# Altium schematic symbol library VBlib_Microschemes.SchLib: 37 symbols
Pins are listed as number, name and electrical type; pins without a type are passive.

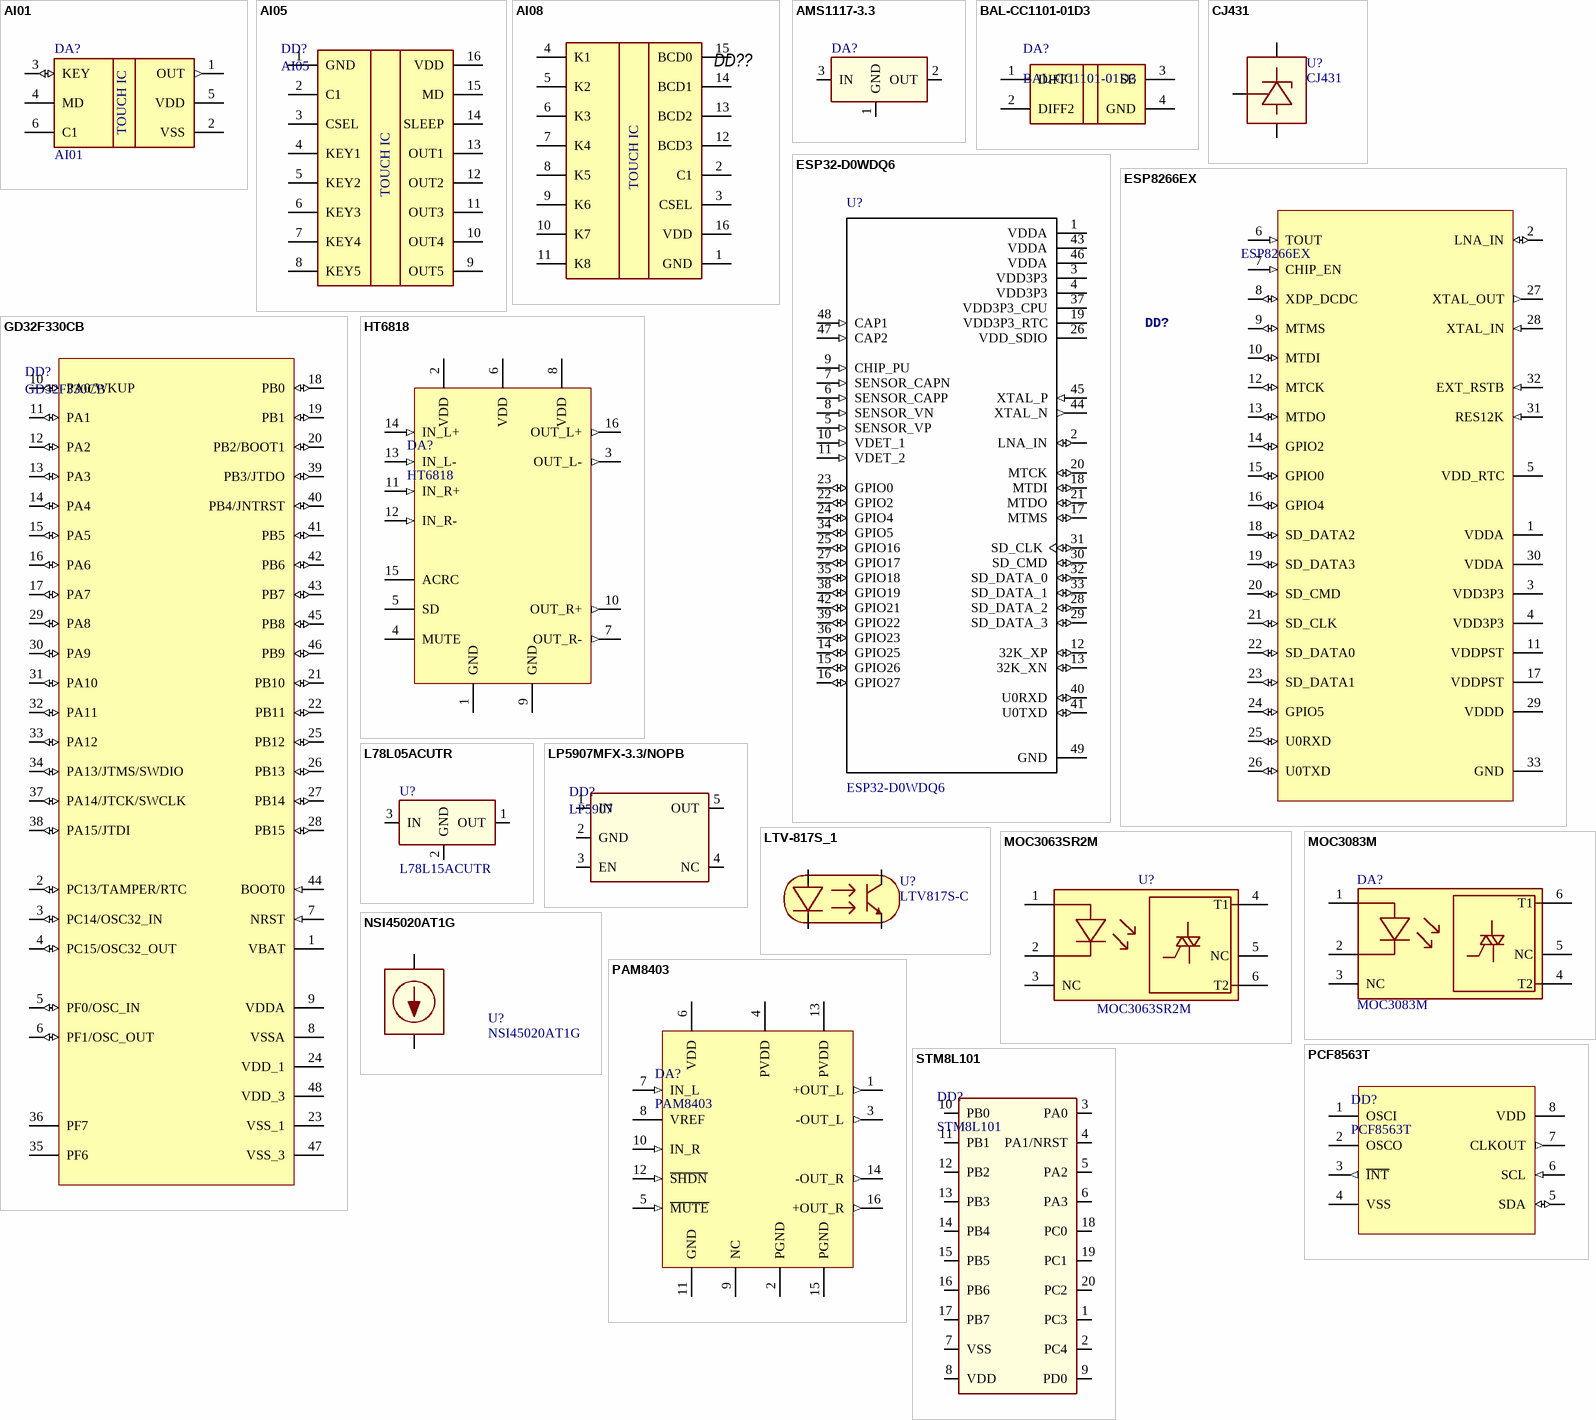
[diagram p0: symbols AI01 to STM8L101]

## AI01
designator DA?
IC, 1ch touch pad detector IC, 2.0-5.5V
footprint SOT-23-6 (SOT23, 6-Leads, Body 2.9x1.3mm, Pitch 0.95mm, Lead Span 2.3mm, IPC Medium Density)
pins: 1 OUT (out) "CMOS output pin", 2 VSS (power) "Ground", 3 KEY (io) "Input sensor port", 4 MD "Output active high or low selection,  1=>Active low; 0=>Active high", 5 VDD (power) "Supply voltage", 6 C1 "Output type option pin,  1=>Toggle mode; 0=>Direct mode"
text: TOUCH IC

## AI05
designator DD?
5 channel self-correcting capacitive touch sensor chip
footprint SO-16 (SOIC, 16-Leads, Body 9.9x3.9mm, Pitch 1.27mm)
pins: 1 GND "Input sensor port", 2 C1 "Input sensor port", 3 CSEL "Input sensor port", 4 KEY1 "Input sensor port", 5 KEY2 "Input sensor port", 6 KEY3 "Input sensor port", 7 KEY4 "Input sensor port", 8 KEY5 "Input sensor port", 9 OUT5 "Input sensor port", 10 OUT4 "Input sensor port", 11 OUT3 "Input sensor port", 12 OUT2 "Input sensor port", 13 OUT1 "Input sensor port", 14 SLEEP "Input sensor port", 15 MD "Input sensor port", 16 VDD "Input sensor port"
text: TOUCH IC

## AI08
designator DD??  (value not drawn)
QUADRUPLE 2-INPUT AND GATES; LCSC_PartNumber: C441720
footprint SO-16 (SOIC, 16-Leads, Body 9.9x3.9mm, Pitch 1.27mm)
pins: 1 GND "Input sensor port", 2 C1 "Input sensor port", 3 CSEL "Input sensor port", 4 K1 "Input sensor port", 5 K2 "Input sensor port", 6 K3 "Input sensor port", 7 K4 "Input sensor port", 8 K5 "Input sensor port", 9 K6 "Input sensor port", 10 K7 "Input sensor port", 11 K8 "Input sensor port", 12 BCD3 "Input sensor port", 13 BCD2 "Input sensor port", 14 BCD1 "Input sensor port", 15 BCD0 "Input sensor port", 16 VDD "Input sensor port"
text: TOUCH IC

## AMS1117-3.3
designator DA?  (value not drawn)
IC, Vreg, LDO, SOT223
footprint SOT-223 (SOT-223, 4-Leads, Body 6.5x3.5mm, Pitch 2.3mm, Lead Span 7mm, IPC Medium Density)
pins: 1 GND, 2 OUT, 3 IN

## BAL-CC1101-01D3
designator DA?
50 ohm nominal input / conjugate match balun
footprint BGA4x2_BALLUN - duplicate
pins: 1 DIFF1 "Output active high or low selection,  1=>Active low; 0=>Active high", 2 DIFF2 "Output type option pin,  1=>Toggle mode; 0=>Direct mode", 3 SE (power) "Supply voltage", 4 GND (power) "Ground"

## CJ431
designator U?
PROGRAMMABLE PRECISION REFERENCE, 2.495В, 0.5%, 100мА, (0 +70С), SOT23-3
footprint SOT-23-3 (SOT-23; 3 Leads; Body 3.0 x 2.6 mm, inc. leads (LxW max))
pins: 1, 2, 3

## ESP32-D0WDQ6
designator U?
/ SoC; 2, 412GГ·2, 484GHz; -98dBm; 2.2Г·3.6VDC; SMD; QFN48; 19.5dBm; 16MB /; MF: Espressif Systems; Package: VFQFN-48 Espressif Systems; SnapEDA_Link: https://www.snapeda.com/parts/ESP32-D0WDQ6/Espressif%20Systems/view-part/?ref=snap; MP: ESP32-D0WDQ6; Digi-Key_Part_Number: 1904-1004-1-ND; Digi-Key_Purchase_URL: https://www.digikey.ru/product-detail/en/espressif-systems/ESP32-D0WDQ6/1904-1004-1-ND/8028411?utm_source=snapeda&utm_medium=aggregator&utm_campaign=symbol; Value: *
footprint *QFN35P500X500X90-49N
footprint *QFN35P500X500X90-49N
pins: 1 VDDA (power), 2 LNA_IN (io), 3 VDD3P3 (power), 4 VDD3P3 (power), 5 SENSOR_VP (in), 6 SENSOR_CAPP (in), 7 SENSOR_CAPN (in), 8 SENSOR_VN (in), 9 CHIP_PU (in), 10 VDET_1 (in), 11 VDET_2 (in), 12 32K_XP (io), 13 32K_XN (io), 14 GPIO25 (io), 15 GPIO26 (io), 16 GPIO27 (io), 17 MTMS (io), 18 MTDI (io), 19 VDD3P3_RTC (power), 20 MTCK (io), 21 MTDO (io), 22 GPIO2 (io), 23 GPIO0 (io), 24 GPIO4 (io), 25 GPIO16 (io), 26 VDD_SDIO (power), 27 GPIO17 (io), 28 SD_DATA_2 (io), 29 SD_DATA_3 (io), 30 SD_CMD (io), 31 SD_CLK (io), 32 SD_DATA_0 (io), 33 SD_DATA_1 (io), 34 GPIO5 (io), 35 GPIO18 (io), 36 GPIO23 (io), 37 VDD3P3_CPU (power), 38 GPIO19 (io), 39 GPIO22 (io), 40 U0RXD (io), 41 U0TXD (io), 42 GPIO21 (io), 43 VDDA (power), 44 XTAL_N (out), 45 XTAL_P (in), 46 VDDA (power), 47 CAP2 (in), 48 CAP1 (in), 49 GND (power)

## ESP8266EX
designator DD?
Wi-Fi SoC (Espressif)
footprint QFN32 (QFN, 32-Leads, Body 5.00x5.00mm, Pitch 0.50mm, Thermal Pad 3.60x3.60mm, IPC Medium Density (Vanchik for ESP8266EX))
pins: 1 VDDA (power), 2 LNA_IN (io), 3 VDD3P3 (power), 4 VDD3P3 (power), 5 VDD_RTC (power), 6 TOUT (in), 7 CHIP_EN (in), 8 XDP_DCDC (io), 9 MTMS (io), 10 MTDI (io), 11 VDDPST (power), 12 MTCK (io), 13 MTDO (io), 14 GPIO2 (io), 15 GPIO0 (io), 16 GPIO4 (io), 17 VDDPST (power), 18 SD_DATA2 (io), 19 SD_DATA3 (io), 20 SD_CMD (io), 21 SD_CLK (io), 22 SD_DATA0 (io), 23 SD_DATA1 (io), 24 GPIO5 (io), 25 U0RXD (io), 26 U0TXD (io), 27 XTAL_OUT (out), 28 XTAL_IN (in), 29 VDDD (power), 30 VDDA (power), 31 RES12K (in), 32 EXT_RSTB (in), 33 GND (power)

## GD32F330CB
designator DD?
32-Bit FLASH ARM® Cortex®-M4 84MHz 2.6V ~ 3.6V LQFP-48_7x7x05P GigaDevice RoHS
footprint LQFP48
pins: 1 VBAT (power), 2 PC13/TAMPER/RTC (io), 3 PC14/OSC32_IN (io), 4 PC15/OSC32_OUT (io), 5 PF0/OSC_IN (io), 6 PF1/OSC_OUT (io), 7 NRST (in), 8 VSSA (power), 9 VDDA (power), 10 PA0/WKUP (io), 11 PA1 (io), 12 PA2 (io), 13 PA3 (io), 14 PA4 (io), 15 PA5 (io), 16 PA6 (io), 17 PA7 (io), 18 PB0 (io), 19 PB1 (io), 20 PB2/BOOT1 (io), 21 PB10 (io), 22 PB11 (io), 23 VSS_1 (power), 24 VDD_1 (power), 25 PB12 (io), 26 PB13 (io), 27 PB14 (io), 28 PB15 (io), 29 PA8 (io), 30 PA9 (io), 31 PA10 (io), 32 PA11 (io), 33 PA12 (io), 34 PA13/JTMS/SWDIO (io), 35 PF6 (power), 36 PF7 (power), 37 PA14/JTCK/SWCLK (io), 38 PA15/JTDI (io), 39 PB3/JTDO (io), 40 PB4/JNTRST (io), 41 PB5 (io), 42 PB6 (io), 43 PB7 (io), 44 BOOT0 (in), 45 PB8 (io), 46 PB9 (io), 47 VSS_3 (power), 48 VDD_3 (power)

## HT6818
designator DA?
Filterless 3W Class-D Stereo Audio Amplifier, SOP-16
footprint SO-16 (SOIC, 16-Leads, Body 9.9x3.9mm, Pitch 1.27mm)
pins: 1 GND (power), 2 VDD (power), 3 OUT_L- (out), 4 MUTE (power), 5 SD, 6 VDD (power), 7 OUT_R- (out), 8 VDD (power), 9 GND (power), 10 OUT_R+ (out), 11 IN_R+ (in), 12 IN_R- (in), 13 IN_L- (in), 14 IN_L+ (in), 15 ACRC, 16 OUT_L+ (out)

## L78L05ACUTR
designator U?, comment L78L15ACUTR
Positive voltage regulator, I=100mA, Vreg=15V, SOT-89
footprint SOT89M (SOT89, 3-Leads, Body 4.5x2.4 mm, Pitch 1.5mm, Lead Span 4.1mm, IPC Low Density)
pins: 1 OUT, 2 GND, 3 IN

## LP5907MFX-3.3/NOPB
designator DD?, comment LP5907
250-mA Ultra-Low-Noise, Low-IQ LDO
footprint SOT-23-5 (SOT23, 5-Leads, Body 2.9x1.3mm, Pitch 0.95mm, Lead Span 2.3mm, IPC Medium Density)
pins: 1 IN, 2 GND, 3 EN, 4 NC, 5 OUT

## LTV-817S_1
designator U?, comment LTV-817S  (value not drawn)
OPTOCOUPLER, Phototransistor Output, One Channel,  SOIC-4 Package
footprint SO-4 (Opto) (SOIC, 4-Leads, Body 6.5x5.0mm, Pitch 2.54mm)
pins: 1 A, 2 C, 3 E, 4 C
text: LTV817S-C

## MOC3063SR2M
designator U?
6-Pin SOIC Zero-Cross Optoisolators Triac Driver Output
footprint SO-6 (Opto) (SOIC, 4-Leads, Body 6.5x5.0mm, Pitch 2.54mm)
pins: 1 Anode, 2 Cathode, 3 NC, 4 T1, 5 NC, 6 T2

## MOC3083M
designator DA?
6-Pin DIP Zero-Cross Optoisolators Triac Driver Output
footprint DIP6
pins: 1 Anode, 2 Cathode, 3 NC, 4 T2, 5 NC, 6 T1

## NSI45020AT1G
designator U?
Constant Current Regulator & LED Driver, 45 V, 20 mA  10%, 460 mW, SOD123
footprint SOD-123_NOT_DIODE
pins: 1, 2

## PAM8403
designator DA?
Filterless 3W Class-D Stereo Audio Amplifier, SOP-16
footprint SO-16 (SOIC, 16-Leads, Body 9.9x3.9mm, Pitch 1.27mm)
pins: 1 +OUT_L (out), 2 PGND (power), 3 -OUT_L (out), 4 PVDD (power), 5 ~{MUTE} (in), 6 VDD (power), 7 IN_L (in), 8 VREF, 9 NC (power), 10 IN_R (in), 11 GND (power), 12 ~{SHDN} (in), 13 PVDD (power), 14 -OUT_R (out), 15 PGND (power), 16 +OUT_R (out)

## PCF8563T
designator DD?
Real-time clock/calendar, SOIC-8
footprint SOIC-8 (208mil)
footprint SOIC-8 (uni)
footprint SOIC-8 (SOIC, 8-Leads, Body 4.9x3.9mm, Pitch 1.27mm)
pins: 1 OSCI, 2 OSCO, 3 ~{INT} (out), 4 VSS (power), 5 SDA (io), 6 SCL (in), 7 CLKOUT (out), 8 VDD (power)

## STM8L101
designator DD?
8-bit ultra-low power microcontroller with up to 8 Kbytes Flash, / multifunction timers, comparators, USART, SPI, I2C
footprint TSSOP20
pins: 1 PC3, 2 PC4, 3 PA0, 4 PA1/NRST, 5 PA2, 6 PA3, 7 VSS, 8 VDD, 9 PD0, 10 PB0, 11 PB1, 12 PB2, 13 PB3, 14 PB4, 15 PB5, 16 PB6, 17 PB7, 18 PC0, 19 PC1, 20 PC2

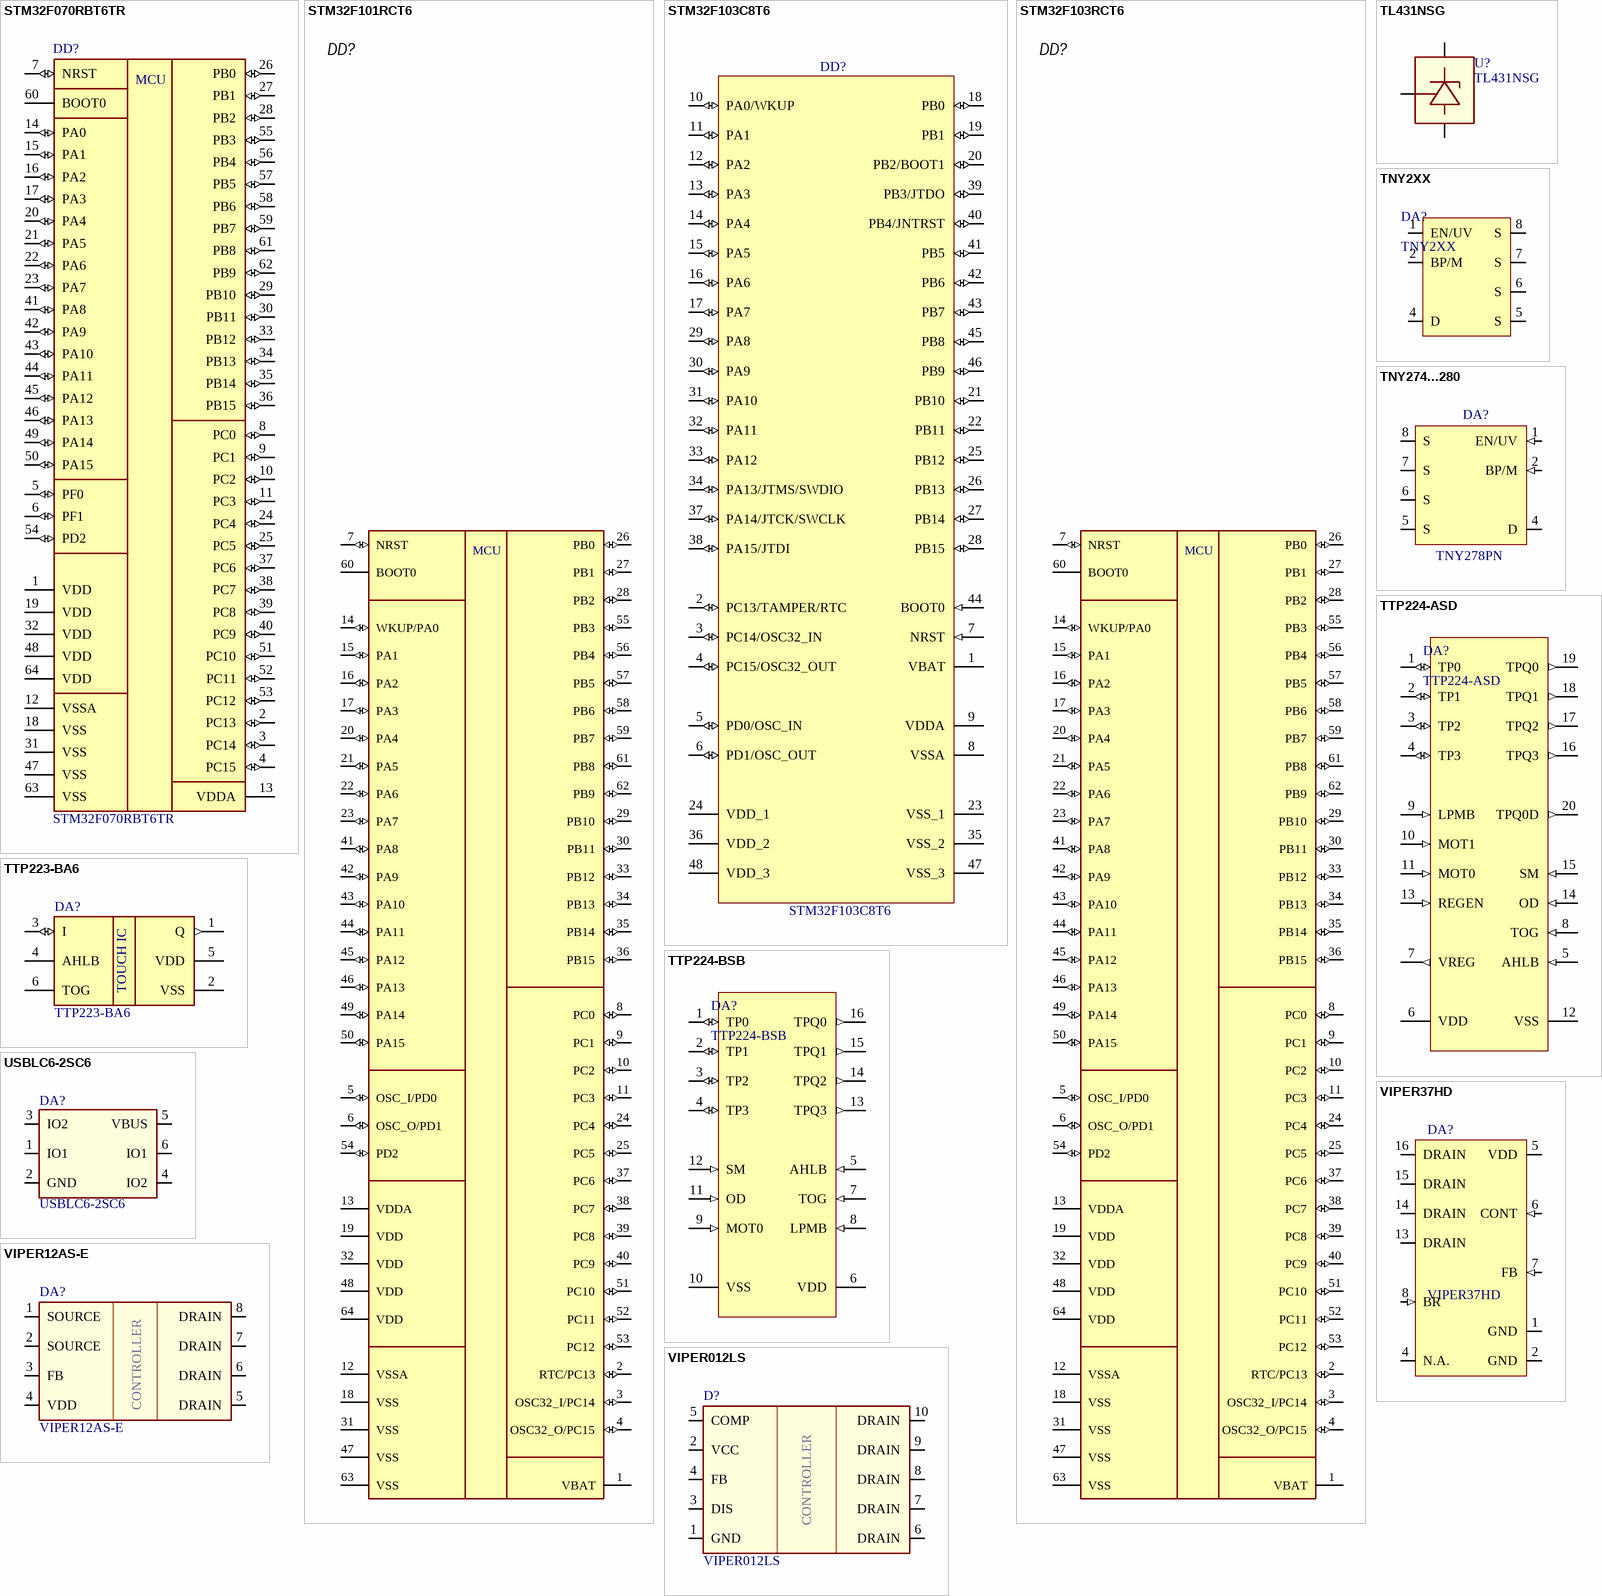
[diagram p1: symbols STM32F070RBT6TR to VIPER37HD]

## STM32F070RBT6TR
designator DD?
IC, MCU, LQFP-64, 32-bit ARM Cortex-M0, 48Mhz, flash 128kb (ST)
footprint LQFP64
pins: 1 VDD (power) "Digital power supply", 2 PC13 (io) "WKUP2,  RTC_TAMP1,  RTC_TS,  RTC_OUT", 3 PC14 (io) "OSC32_IN", 4 PC15 (io) "OSC32_OU", 5 PF0 (io) "I2C1_SDA, OSC_IN", 6 PF1 (io) "I2C1_SCL, OSC_OUT", 7 NRST (io) "Device reset input / internal reset output (active low)", 8 PC0 (io), 9 PC1 (io), 10 PC2 (io), 11 PC3 (io), 12 VSSA (power) "Analog ground", 13 VDDA (power) "Analog power supply", 14 PA0 (io) "USART2_CTS,  USART4_TX  RTC_ TAMP2,  WKUP1, ADC_IN0,", 15 PA1 (io) "USART2_RTS,  TIM15_CH1N,  USART4_RX, EVENTOUT  ADC_IN1", 16 PA2 (io) "USART2_TX, TIM15_CH1 ADC_IN2, WKUP4", 17 PA3 (io) "USART2_RX, TIM15_CH2 ADC_IN3", 18 VSS (power) "Graound", 19 VDD (power) "Digital power supply", 20 PA4 (io) "SPI1_NSS, TIM14_CH1,  USART2_CK,  USB_NOE(3)  ADC_IN4", 21 PA5 (io) "SPI1_SCK ADC_IN5", 22 PA6 (io) "SPI1_MISO, TIM3_CH1,  TIM1_BKIN,  TIM16_CH1, EVENTOUT,  USART3_CTS  ADC_IN6", 23 PA7 (io) "SPI1_MOSI, TIM3_CH2,  TIM14_CH1,  TIM1_CH1N, TIM17_CH1,  EVENTOUT  ADC_IN7", 24 PC4 (io), 25 PC5 (io), 26 PB0 (io) "TIM3_CH3, TIM1_CH2N,  EVENTOUT,  USART3_CK  ADC_IN8", 27 PB1 (io) "TIM3_CH4,  USART3_RTS,  TIM14_CH1, TIM1_CH3N  ADC_IN9", 28 PB2 (io), 29 PB10 (io) "SPI2_SCK, USART3_TX", 30 PB11 (io) "USART3_RX,  EVENTOUT, I2C2_SDA", 31 VSS (power) "Graound", 32 VDD (power) "Digital power supply", 33 PB12 (io) "TIM1_BKIN, TIM15_BKIN,  SPI2_NSS, EVENTOUT,  USART3_CK", 34 PB13 (io) "SPI2_SCK, I2C2_SCL,  TIM1_CH1N,  USART3_CTS", 35 PB14 (io) "SPI2_MISO, I2C2_SDA,  TIM1_CH2N, TIM15_CH1,  USART3_RTS", 36 PB15 (io) "SPI2_MOSI, TIM1_CH3N,  TIM15_CH1N,  TIM15_CH2  WKUP7,  RTC_REFIN", 37 PC6 (io), 38 PC7 (io), 39 PC8 (io), 40 PC9 (io), 41 PA8 (io) "USART1_CK, TIM1_CH1,  EVENTOUT, MCO", 42 PA9 (io) "USART1_TX, TIM1_CH2,  TIM15_BKIN,  I2C1_SCL", 43 PA10 (io) "USART1_RX, TIM1_CH3,  TIM17_BKIN,  I2C1_SDA", 44 PA11 (io) "USART1_CTS,  TIM1_CH4, EVENTOUT USB_DM", 45 PA12 (io) "USART1_RTS,  TIM1_ETR, EVENTOUT USB_DP", 46 PA13 (io) "IR_OUT, SWDIO,  USB_NOE", 47 VSS (power) "Ground", 48 VDD (power) "Digital power supply", 49 PA14 (io) "USART2_TX, SWCLK", 50 PA15 (io) "SPI1_NSS, USART2_RX,  USART4_RTS,  EVENTOUT", 51 PC10 (io), 52 PC11 (io), 53 PC12 (io), 54 PD2 (io), 55 PB3 (io) "SPI1_SCK, EVENTOUT", 56 PB4 (io) "SPI1_MISO, TIM17_BKIN,  TIM3_CH1, EVENTOUT", 57 PB5 (io) "SPI1_MOSI, I2C1_SMBA,  TIM16_BKIN,  TIM3_CH2  WKUP6", 58 PB6 (io) "I2C1_SCL, USART1_TX,  TIM16_CH1N", 59 PB7 (io) "I2C1_SDA, USART1_RX,  USART4_CTS,  TIM17_C", 60 BOOT0 "Boot memory selection", 61 PB8 (io) "I2C1_SCL, TIM16_CH1", 62 PB9 (io) "SPI2_NSS, I2C1_SDA,  IR_OUT,  TIM17_CH1, EVENTOUT", 63 VSS (power) "Ground", 64 VDD (power) "Digital power supply"
text: MCU

## STM32F101RCT6
designator DD?  (value not drawn)
ARM Cortex-M3 MCU with 256 Kbytes Flash, 32 MHz CPU; Manufacturer: ST; Group: Микросхемы; Value: Микроконтроллер; Name: STM32F101RCT6; Supplier: ООО"Торгэлектроника"
footprint LQFP64
pins: 1 VBAT (power) "Analog power supply", 2 RTC/PC13 (io) "WKUP2,  RTC_TAMP1,  RTC_TS,  RTC_OUT", 3 OSC32_I/PC14 (io) "OSC32_IN", 4 OSC32_O/PC15 (io) "OSC32_OU", 5 OSC_I/PD0 (io) "I2C1_SDA, OSC_IN", 6 OSC_O/PD1 (io) "I2C1_SCL, OSC_OUT", 7 NRST (io) "Device reset input / internal reset output (active low)", 8 PC0 (io), 9 PC1 (io), 10 PC2 (io), 11 PC3 (io), 12 VSSA (power) "Analog ground", 13 VDDA (power) "Digital power supply", 14 WKUP/PA0 (io) "USART2_CTS,  USART4_TX  RTC_ TAMP2,  WKUP1, ADC_IN0,", 15 PA1 (io) "USART2_RTS,  TIM15_CH1N,  USART4_RX, EVENTOUT  ADC_IN1", 16 PA2 (io) "USART2_TX, TIM15_CH1 ADC_IN2, WKUP4", 17 PA3 (io) "USART2_RX, TIM15_CH2 ADC_IN3", 18 VSS (power) "Graound", 19 VDD (power) "Digital power supply", 20 PA4 (io) "SPI1_NSS, TIM14_CH1,  USART2_CK,  USB_NOE(3)  ADC_IN4", 21 PA5 (io) "SPI1_SCK ADC_IN5", 22 PA6 (io) "SPI1_MISO, TIM3_CH1,  TIM1_BKIN,  TIM16_CH1, EVENTOUT,  USART3_CTS  ADC_IN6", 23 PA7 (io) "SPI1_MOSI, TIM3_CH2,  TIM14_CH1,  TIM1_CH1N, TIM17_CH1,  EVENTOUT  ADC_IN7", 24 PC4 (io), 25 PC5 (io), 26 PB0 (io) "TIM3_CH3, TIM1_CH2N,  EVENTOUT,  USART3_CK  ADC_IN8", 27 PB1 (io) "TIM3_CH4,  USART3_RTS,  TIM14_CH1, TIM1_CH3N  ADC_IN9", 28 PB2 (io), 29 PB10 (io) "SPI2_SCK, USART3_TX", 30 PB11 (io) "USART3_RX,  EVENTOUT, I2C2_SDA", 31 VSS (power) "Graound", 32 VDD (power) "Digital power supply", 33 PB12 (io) "TIM1_BKIN, TIM15_BKIN,  SPI2_NSS, EVENTOUT,  USART3_CK", 34 PB13 (io) "SPI2_SCK, I2C2_SCL,  TIM1_CH1N,  USART3_CTS", 35 PB14 (io) "SPI2_MISO, I2C2_SDA,  TIM1_CH2N, TIM15_CH1,  USART3_RTS", 36 PB15 (io) "SPI2_MOSI, TIM1_CH3N,  TIM15_CH1N,  TIM15_CH2  WKUP7,  RTC_REFIN", 37 PC6 (io), 38 PC7 (io), 39 PC8 (io), 40 PC9 (io), 41 PA8 (io) "USART1_CK, TIM1_CH1,  EVENTOUT, MCO", 42 PA9 (io) "USART1_TX, TIM1_CH2,  TIM15_BKIN,  I2C1_SCL", 43 PA10 (io) "USART1_RX, TIM1_CH3,  TIM17_BKIN,  I2C1_SDA", 44 PA11 (io) "USART1_CTS,  TIM1_CH4, EVENTOUT USB_DM", 45 PA12 (io) "USART1_RTS,  TIM1_ETR, EVENTOUT USB_DP", 46 PA13 (io) "IR_OUT, SWDIO,  USB_NOE", 47 VSS (power) "Ground", 48 VDD (power) "Digital power supply", 49 PA14 (io) "USART2_TX, SWCLK", 50 PA15 (io) "SPI1_NSS, USART2_RX,  USART4_RTS,  EVENTOUT", 51 PC10 (io), 52 PC11 (io), 53 PC12 (io), 54 PD2 (io), 55 PB3 (io) "SPI1_SCK, EVENTOUT", 56 PB4 (io) "SPI1_MISO, TIM17_BKIN,  TIM3_CH1, EVENTOUT", 57 PB5 (io) "SPI1_MOSI, I2C1_SMBA,  TIM16_BKIN,  TIM3_CH2  WKUP6", 58 PB6 (io) "I2C1_SCL, USART1_TX,  TIM16_CH1N", 59 PB7 (io) "I2C1_SDA, USART1_RX,  USART4_CTS,  TIM17_C", 60 BOOT0 "Boot memory selection", 61 PB8 (io) "I2C1_SCL, TIM16_CH1", 62 PB9 (io) "SPI2_NSS, I2C1_SDA,  IR_OUT,  TIM17_CH1, EVENTOUT", 63 VSS (power) "Ground", 64 VDD (power) "Digital power supply"
text: MCU

## STM32F103C8T6
designator DD?
IC, MCU, LQFP-48, 32-bit ARM Cortex-M3, 72Mhz, flash 64kb (ST)
footprint LQFP48
pins: 1 VBAT (power), 2 PC13/TAMPER/RTC (io), 3 PC14/OSC32_IN (io), 4 PC15/OSC32_OUT (io), 5 PD0/OSC_IN (io), 6 PD1/OSC_OUT (io), 7 NRST (in), 8 VSSA (power), 9 VDDA (power), 10 PA0/WKUP (io), 11 PA1 (io), 12 PA2 (io), 13 PA3 (io), 14 PA4 (io), 15 PA5 (io), 16 PA6 (io), 17 PA7 (io), 18 PB0 (io), 19 PB1 (io), 20 PB2/BOOT1 (io), 21 PB10 (io), 22 PB11 (io), 23 VSS_1 (power), 24 VDD_1 (power), 25 PB12 (io), 26 PB13 (io), 27 PB14 (io), 28 PB15 (io), 29 PA8 (io), 30 PA9 (io), 31 PA10 (io), 32 PA11 (io), 33 PA12 (io), 34 PA13/JTMS/SWDIO (io), 35 VSS_2 (power), 36 VDD_2 (power), 37 PA14/JTCK/SWCLK (io), 38 PA15/JTDI (io), 39 PB3/JTDO (io), 40 PB4/JNTRST (io), 41 PB5 (io), 42 PB6 (io), 43 PB7 (io), 44 BOOT0 (in), 45 PB8 (io), 46 PB9 (io), 47 VSS_3 (power), 48 VDD_3 (power)

## STM32F103RCT6
designator DD?  (value not drawn)
ARM Cortex-M3 MCU with 256 Kbytes Flash, 32 MHz CPU; Manufacturer: ST; Name: STM32F101RCT6; Group: Микросхемы; Value: Микроконтроллер; Supplier: ООО"Торгэлектроника"
footprint LQFP64
pins: 1 VBAT (power) "Analog power supply", 2 RTC/PC13 (io) "WKUP2,  RTC_TAMP1,  RTC_TS,  RTC_OUT", 3 OSC32_I/PC14 (io) "OSC32_IN", 4 OSC32_O/PC15 (io) "OSC32_OU", 5 OSC_I/PD0 (io) "I2C1_SDA, OSC_IN", 6 OSC_O/PD1 (io) "I2C1_SCL, OSC_OUT", 7 NRST (io) "Device reset input / internal reset output (active low)", 8 PC0 (io), 9 PC1 (io), 10 PC2 (io), 11 PC3 (io), 12 VSSA (power) "Analog ground", 13 VDDA (power) "Digital power supply", 14 WKUP/PA0 (io) "USART2_CTS,  USART4_TX  RTC_ TAMP2,  WKUP1, ADC_IN0,", 15 PA1 (io) "USART2_RTS,  TIM15_CH1N,  USART4_RX, EVENTOUT  ADC_IN1", 16 PA2 (io) "USART2_TX, TIM15_CH1 ADC_IN2, WKUP4", 17 PA3 (io) "USART2_RX, TIM15_CH2 ADC_IN3", 18 VSS (power) "Graound", 19 VDD (power) "Digital power supply", 20 PA4 (io) "SPI1_NSS, TIM14_CH1,  USART2_CK,  USB_NOE(3)  ADC_IN4", 21 PA5 (io) "SPI1_SCK ADC_IN5", 22 PA6 (io) "SPI1_MISO, TIM3_CH1,  TIM1_BKIN,  TIM16_CH1, EVENTOUT,  USART3_CTS  ADC_IN6", 23 PA7 (io) "SPI1_MOSI, TIM3_CH2,  TIM14_CH1,  TIM1_CH1N, TIM17_CH1,  EVENTOUT  ADC_IN7", 24 PC4 (io), 25 PC5 (io), 26 PB0 (io) "TIM3_CH3, TIM1_CH2N,  EVENTOUT,  USART3_CK  ADC_IN8", 27 PB1 (io) "TIM3_CH4,  USART3_RTS,  TIM14_CH1, TIM1_CH3N  ADC_IN9", 28 PB2 (io), 29 PB10 (io) "SPI2_SCK, USART3_TX", 30 PB11 (io) "USART3_RX,  EVENTOUT, I2C2_SDA", 31 VSS (power) "Graound", 32 VDD (power) "Digital power supply", 33 PB12 (io) "TIM1_BKIN, TIM15_BKIN,  SPI2_NSS, EVENTOUT,  USART3_CK", 34 PB13 (io) "SPI2_SCK, I2C2_SCL,  TIM1_CH1N,  USART3_CTS", 35 PB14 (io) "SPI2_MISO, I2C2_SDA,  TIM1_CH2N, TIM15_CH1,  USART3_RTS", 36 PB15 (io) "SPI2_MOSI, TIM1_CH3N,  TIM15_CH1N,  TIM15_CH2  WKUP7,  RTC_REFIN", 37 PC6 (io), 38 PC7 (io), 39 PC8 (io), 40 PC9 (io), 41 PA8 (io) "USART1_CK, TIM1_CH1,  EVENTOUT, MCO", 42 PA9 (io) "USART1_TX, TIM1_CH2,  TIM15_BKIN,  I2C1_SCL", 43 PA10 (io) "USART1_RX, TIM1_CH3,  TIM17_BKIN,  I2C1_SDA", 44 PA11 (io) "USART1_CTS,  TIM1_CH4, EVENTOUT USB_DM", 45 PA12 (io) "USART1_RTS,  TIM1_ETR, EVENTOUT USB_DP", 46 PA13 (io) "IR_OUT, SWDIO,  USB_NOE", 47 VSS (power) "Ground", 48 VDD (power) "Digital power supply", 49 PA14 (io) "USART2_TX, SWCLK", 50 PA15 (io) "SPI1_NSS, USART2_RX,  USART4_RTS,  EVENTOUT", 51 PC10 (io), 52 PC11 (io), 53 PC12 (io), 54 PD2 (io), 55 PB3 (io) "SPI1_SCK, EVENTOUT", 56 PB4 (io) "SPI1_MISO, TIM17_BKIN,  TIM3_CH1, EVENTOUT", 57 PB5 (io) "SPI1_MOSI, I2C1_SMBA,  TIM16_BKIN,  TIM3_CH2  WKUP6", 58 PB6 (io) "I2C1_SCL, USART1_TX,  TIM16_CH1N", 59 PB7 (io) "I2C1_SDA, USART1_RX,  USART4_CTS,  TIM17_C", 60 BOOT0 "Boot memory selection", 61 PB8 (io) "I2C1_SCL, TIM16_CH1", 62 PB9 (io) "SPI2_NSS, I2C1_SDA,  IR_OUT,  TIM17_CH1, EVENTOUT", 63 VSS (power) "Ground", 64 VDD (power) "Digital power supply"
text: MCU

## TL431NSG
designator U?
PROGRAMMABLE PRECISION REFERENCE, 2.495В, 0.5%, 100мА, (0 +70С), SOT23-3
footprint SOT-23-3 (SOT-23; 3 Leads; Body 3.0 x 2.6 mm, inc. leads (LxW max))
pins: 1, 2, 3

## TNY2XX
designator DA?
TNY274-280 TinySwitch-III Family  Energy Efficient, Off-Line Switcher; Value: TNY274P; Value: TNY274G; Value: TNY275P; Value: TNY275G; Value: TNY276P; Value: TNY276G; Value: TNY277P; Value: TNY277G; Value: TNY278P; Value: TNY278G; Value: TNY279P; Value: TNY279G; Value: TNY280P; Value: TNY280G
footprint DIP8C
footprint SOIC-8C (SOIC, 7-Leads, Body 4.9x3.9mm, Pitch 1.27mm)
footprint SOIC-8C_RECT (SOIC, 7-Leads, Body 4.9x3.9mm, Pitch 1.27mm)
pins: 1 EN/UV, 2 BP/M (power), 4 D (oc), 5 S (power), 6 S (power), 7 S (power), 8 S (power)

## TNY274...280
designator DA?, comment TNY278PN
IC, DC-DC controller, DIP-8C (ST)
footprint DIP8C
pins: 1 EN/UV (in), 2 BP/M (in), 4 D (power), 5 S (oc), 6 S (oc), 7 S (oc), 8 S (oc)

## TTP223-BA6
designator DA?
IC, 1ch touch pad detector IC, 2.0-5.5V
footprint SOT-23-6 (SOT23, 6-Leads, Body 2.9x1.3mm, Pitch 0.95mm, Lead Span 2.3mm, IPC Medium Density)
pins: 1 Q (out) "CMOS output pin", 2 VSS (power) "Ground", 3 I (io) "Input sensor port", 4 AHLB "Output active high or low selection,  1=>Active low; 0=>Active high", 5 VDD (power) "Supply voltage", 6 TOG "Output type option pin,  1=>Toggle mode; 0=>Direct mode"
text: TOUCH IC

## TTP224-ASD
designator DA?
4 KEY TOUCH PAD DETECTOR IC
footprint SOP64P600X175-20N (SOP, 20-Leads, Body 8,65x3,90mm, Pitch 0,64mm, IPC Medium Density)
pins: 1 TP0 (io), 2 TP1 (io), 3 TP2 (io), 4 TP3 (io), 5 AHLB (in), 6 VDD (power), 7 VREG (out), 8 TOG (in), 9 LPMB (in), 10 MOT1 (in), 11 MOT0 (in), 12 VSS (power), 13 REGEN (in), 14 OD (in), 15 SM (in), 16 TPQ3 (out), 17 TPQ2 (out), 18 TPQ1 (out), 19 TPQ0 (out), 20 TPQ0D (out)

## TTP224-BSB
designator DA?
4 KEY TOUCH PAD DETECTOR IC
footprint SSOP16 (SOP, 16-Leads, Body 4,90x3,90mm, Pitch 0,64mm, IPC Medium Density)
footprint SSOP16_RECT (SOP, 16-Leads, Body 4,90x3,90mm, Pitch 0,64mm, IPC Medium Density)
pins: 1 TP0 (io), 2 TP1 (io), 3 TP2 (io), 4 TP3 (io), 5 AHLB (in), 6 VDD (power), 7 TOG (in), 8 LPMB (in), 9 MOT0 (in), 10 VSS (power), 11 OD (in), 12 SM (in), 13 TPQ3 (out), 14 TPQ2 (out), 15 TPQ1 (out), 16 TPQ0 (out)

## USBLC6-2SC6
designator DA?
Very low capacitance ESD protection (ST)
footprint SOT-23-6 (SOT23, 6-Leads, Body 2.9x1.3mm, Pitch 0.95mm, Lead Span 2.3mm, IPC Medium Density)
pins: 1 IO1, 2 GND, 3 IO2, 4 IO2, 5 VBUS, 6 IO1

## VIPER12AS-E
designator DA?
IC, DC-DC controller (ST)
footprint SOIC-8 (SOIC, 8-Leads, Body 4.9x3.9mm, Pitch 1.27mm)
footprint SOIC-8_RECT (SOIC, 8-Leads, Body 4.9x3.9mm, Pitch 1.27mm)
pins: 1 SOURCE, 2 SOURCE, 3 FB, 4 VDD, 5 DRAIN, 6 DRAIN, 7 DRAIN, 8 DRAIN
text: CONTROLLER

## VIPER012LS
designator D?
IC, DC-DC controller (ST)
footprint SSOP10 (SSOP10 package for HVLED001)
pins: 1 GND, 2 VCC, 3 DIS, 4 FB, 5 COMP, 6 DRAIN, 7 DRAIN, 8 DRAIN, 9 DRAIN, 10 DRAIN
text: CONTROLLER

## VIPER37HD
designator DA?
IC, DC-DC controller (ST)
footprint SO-16 (SOIC, 16-Leads, Body 9.9x3.9mm, Pitch 1.27mm)
pins: 1 GND (power), 2 GND (power), 4 N.A., 5 VDD (power), 6 CONT (in), 7 FB (in), 8 BR (in), 13 DRAIN (oc), 14 DRAIN (oc), 15 DRAIN (oc), 16 DRAIN (oc)

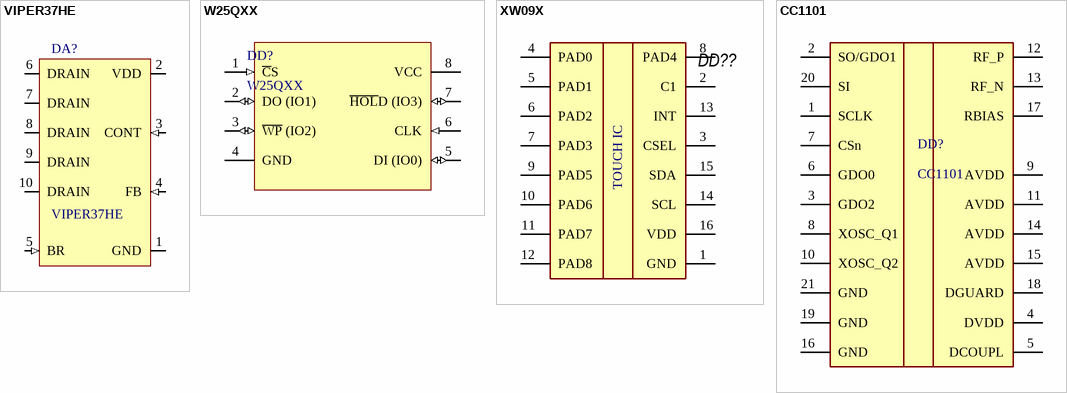
[diagram p2: symbols VIPER37HE to СС1101]

## VIPER37HE
designator DA?
IC, DC-DC controller (ST)
footprint SDIP10
pins: 1 GND (power), 2 VDD (power), 3 CONT (in), 4 FB (in), 5 BR (in), 6 DRAIN (oc), 7 DRAIN (oc), 8 DRAIN (oc), 9 DRAIN (oc), 10 DRAIN (oc)

## W25QXX
designator DD?
Flash memory, SPI, SOIC-8
footprint SOIC-8 (208mil)
pins: 1 ~{C}S (in), 2 DO (IO1) (io), 3 ~{WP} (IO2) (io), 4 GND (power), 5 DI (IO0) (io), 6 CLK (in), 7 ~{HOL}D (IO3) (io), 8 VCC (power)

## XW09X
designator DD??, comment XW09A  (value not drawn)
QUADRUPLE 2-INPUT AND GATES; Manufacturer: Nexperia; Group: Микросхемы; Value: Touch 8 pad; Name: XW09A; Supplier: ООО "Торгэлектроника"; LCSC_PartNumber: C441720
footprint SO-16 (SOIC, 16-Leads, Body 9.9x3.9mm, Pitch 1.27mm)
pins: 1 GND "Input sensor port", 2 C1 "Input sensor port", 3 CSEL "Input sensor port", 4 PAD0 "Input sensor port", 5 PAD1 "Input sensor port", 6 PAD2 "Input sensor port", 7 PAD3 "Input sensor port", 8 PAD4 "Input sensor port", 9 PAD5 "Input sensor port", 10 PAD6 "Input sensor port", 11 PAD7 "Input sensor port", 12 PAD8 "Input sensor port", 13 INT "Input sensor port", 14 SCL "Input sensor port", 15 SDA "Input sensor port", 16 VDD "Input sensor port"
text: TOUCH IC

## СС1101
designator DD?
Low-Power Sub-1 GHz RF Transceiver
footprint S-PVQFN-N20
pins: 1 SCLK "Input sensor port", 2 SO/GDO1 "Input sensor port", 3 GDO2 "Input sensor port", 4 DVDD "Input sensor port", 5 DCOUPL "Input sensor port", 6 GDO0 "Input sensor port", 7 CSn "Input sensor port", 8 XOSC_Q1 "Input sensor port", 9 AVDD "Input sensor port", 10 XOSC_Q2 "Input sensor port", 11 AVDD "Input sensor port", 12 RF_P "Input sensor port", 13 RF_N "Input sensor port", 14 AVDD "Input sensor port", 15 AVDD "Input sensor port", 16 GND "Input sensor port", 17 RBIAS "Input sensor port", 18 DGUARD "Input sensor port", 19 GND "Input sensor port", 20 SI "Input sensor port", 21 GND "Input sensor port"